# EAGLE library part FM25V02 (library gecko)
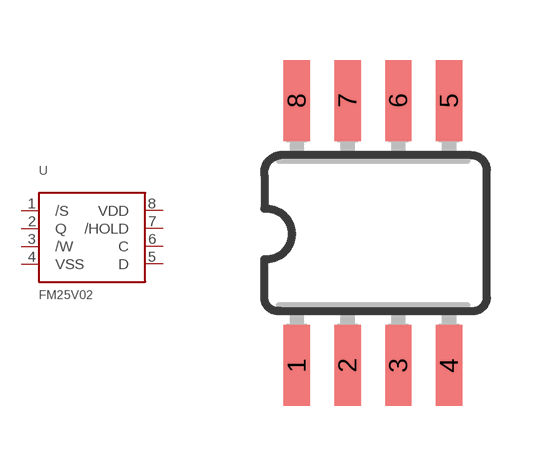
[diagram p7: symbol with the pads of SOIC8; footprint SOIC8]

Designator prefix U

## FM25V02  [SOIC8]
1  /S
2  Q
3  /W
4  VSS
5  D
6  C
7  /HOLD
8  VDD

## Footprint SOIC8 (pad centres in mm)
smd 0.66 x 2.032: 1 -1.905,-3.315; 2 -0.635,-3.315; 3 0.635,-3.315; 4 1.905,-3.315; 5 1.905,3.315; 6 0.635,3.315; 7 -0.635,3.315; 8 -1.905,3.315